# Altium integrated library Renesas Microcontroller H8S.IntLib: 670 symbols (part 32 of 70)
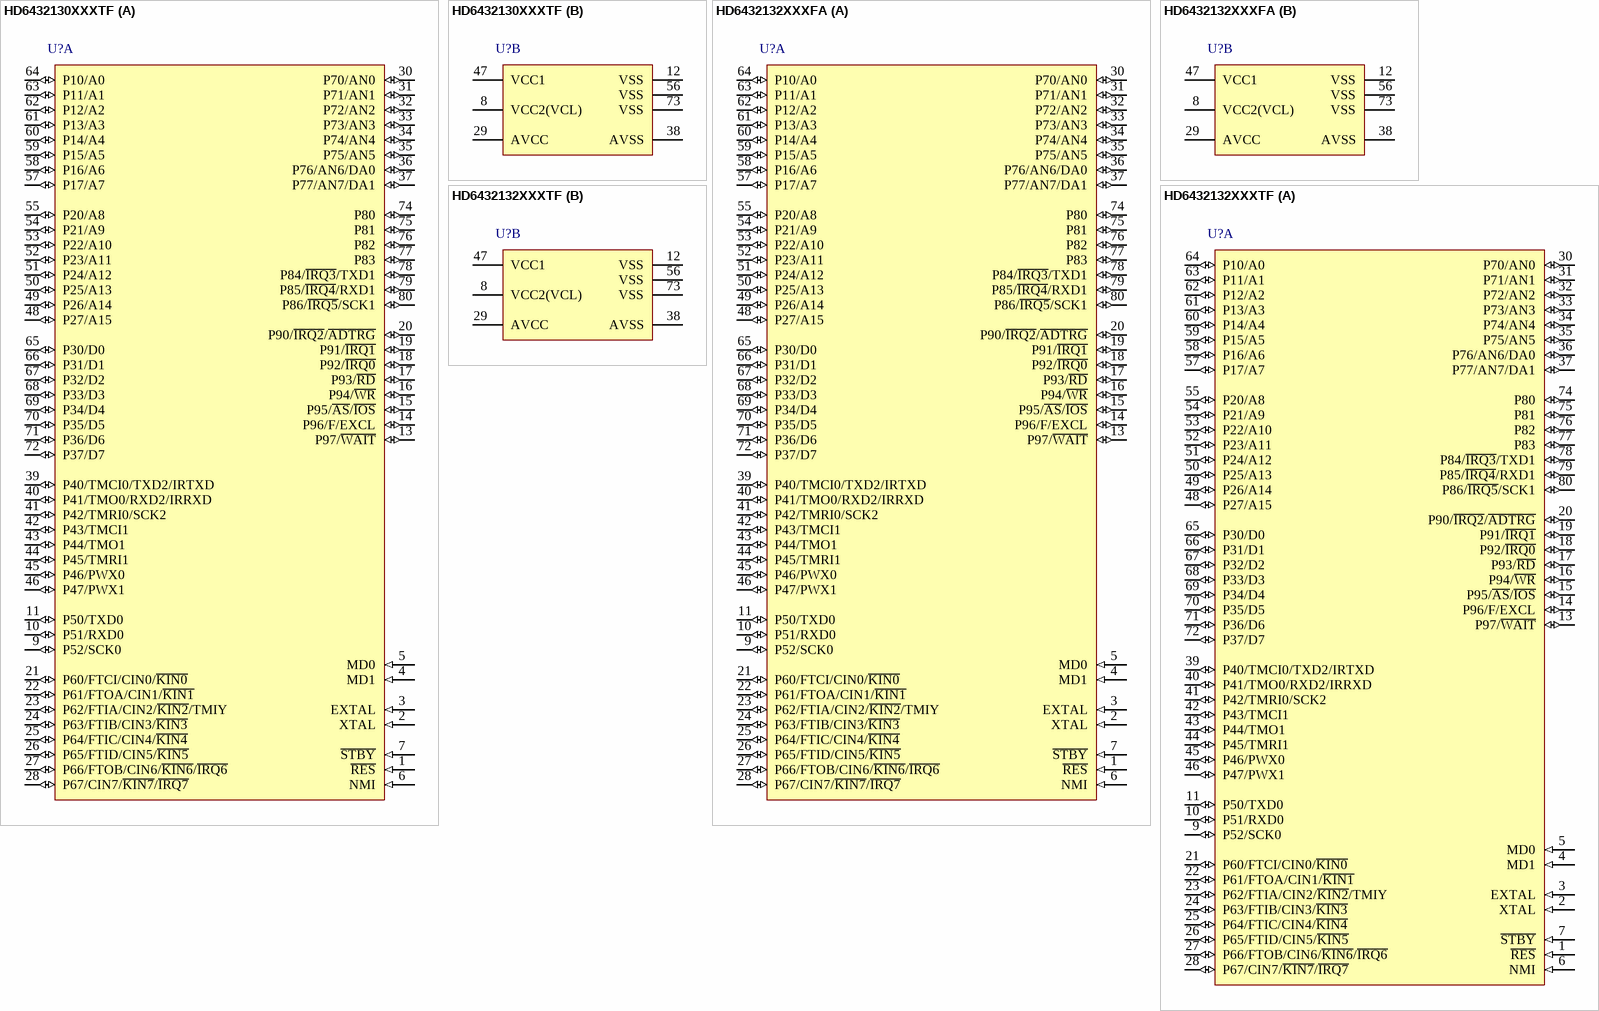
[diagram p360: symbols HD6432130XXXTF to HD6432132XXXTF]

## HD6432132XXXTF
designator U?
Mask ROM H8S/2100 Series, 2134 Group MCU, 64K ROM, 2K RAM, TFP-80C Pkg; Published: 28-Aug-2009; DatasheetVersion: Rev.4.00, Jun-2006; PackageVersion: Sep-2005; PackageReference: PTQP0080KC-A; Publisher: Altium Limited; PackageDescription: 80-Pin Plastic Thin Quad Flat Pack, 12 x 12 x 1.0 mm Body, 0.5 mm Pitch; Code_JEITA: P-TQFP80-12x12-0.50; ComponentLink1Description: Manufacturer Link; ComponentLink1URL: http://sg.renesas.com/fmwk.jsp?cnt=h8s_family_landing.jsp&fp=/products/mpumcu/h8s_family/; ComponentLink2Description: Datasheet; ComponentLink2URL: http://documentation.renesas.com/eng/products/mpumcu/rej09b0301_2138hm.pdf; ComponentLink3Description: Packaging Specification; ComponentLink3URL: http://sg.renesas.com/media/products/common_info/package/pdf/ic/code/ptqp0080kc_a.pdf
footprint PTQP0080KC-A_N (Thin QFP, 80-Leads, Body 12x12mm, Pitch 0.5mm, IPC Medium Density)
footprint PTQP0080KC-A_L (Thin QFP, 80-Leads, Body 12x12mm, Pitch 0.5mm, IPC High Density)
footprint PTQP0080KC-A_M (Thin QFP, 80-Leads, Body 12x12mm, Pitch 0.5mm, IPC Low Density)
part A pins: 1 ~{RES} (in), 2 XTAL (in), 3 EXTAL (in), 4 MD1 (in), 5 MD0 (in), 6 NMI (in), 7 ~{STBY} (in), 9 P52/SCK0 (io), 10 P51/RXD0 (io), 11 P50/TXD0 (io), 13 P97/~{WAIT} (io), 14 P96/F/EXCL (io), 15 P95/~{AS}/~{IOS} (io), 16 P94/~{WR} (io), 17 P93/~{RD} (io), 18 P92/~{IRQ0} (io), 19 P91/~{IRQ1} (io), 20 P90/~{IRQ2}/~{ADTRG} (io), 21 P60/FTCI/CIN0/~{KIN0} (io), 22 P61/FTOA/CIN1/~{KIN1} (io), 23 P62/FTIA/CIN2/~{KIN2}/TMIY (io), 24 P63/FTIB/CIN3/~{KIN3} (io), 25 P64/FTIC/CIN4/~{KIN4} (io), 26 P65/FTID/CIN5/~{KIN5} (io), 27 P66/FTOB/CIN6/~{KIN6}/~{IRQ6} (io), 28 P67/CIN7/~{KIN7}/~{IRQ7} (io), 30 P70/AN0 (io), 31 P71/AN1 (io), 32 P72/AN2 (io), 33 P73/AN3 (io), 34 P74/AN4 (io), 35 P75/AN5 (io), 36 P76/AN6/DA0 (io), 37 P77/AN7/DA1 (io), 39 P40/TMCI0/TXD2/IRTXD (io), 40 P41/TMO0/RXD2/IRRXD (io), 41 P42/TMRI0/SCK2 (io), 42 P43/TMCI1 (io), 43 P44/TMO1 (io), 44 P45/TMRI1 (io), 45 P46/PWX0 (io), 46 P47/PWX1 (io), 48 P27/A15 (io), 49 P26/A14 (io), 50 P25/A13 (io), 51 P24/A12 (io), 52 P23/A11 (io), 53 P22/A10 (io), 54 P21/A9 (io), 55 P20/A8 (io), 57 P17/A7 (io), 58 P16/A6 (io), 59 P15/A5 (io), 60 P14/A4 (io), 61 P13/A3 (io), 62 P12/A2 (io), 63 P11/A1 (io), 64 P10/A0 (io), 65 P30/D0 (io), 66 P31/D1 (io), 67 P32/D2 (io), 68 P33/D3 (io), 69 P34/D4 (io), 70 P35/D5 (io), 71 P36/D6 (io), 72 P37/D7 (io), 74 P80 (io), 75 P81 (io), 76 P82 (io), 77 P83 (io), 78 P84/~{IRQ3}/TXD1 (io), 79 P85/~{IRQ4}/RXD1 (io), 80 P86/~{IRQ5}/SCK1 (io)
part B pins: 8 VCC2(VCL), 12 VSS (power), 29 AVCC (power), 38 AVSS (power), 47 VCC1 (power), 56 VSS (power), 73 VSS (power)

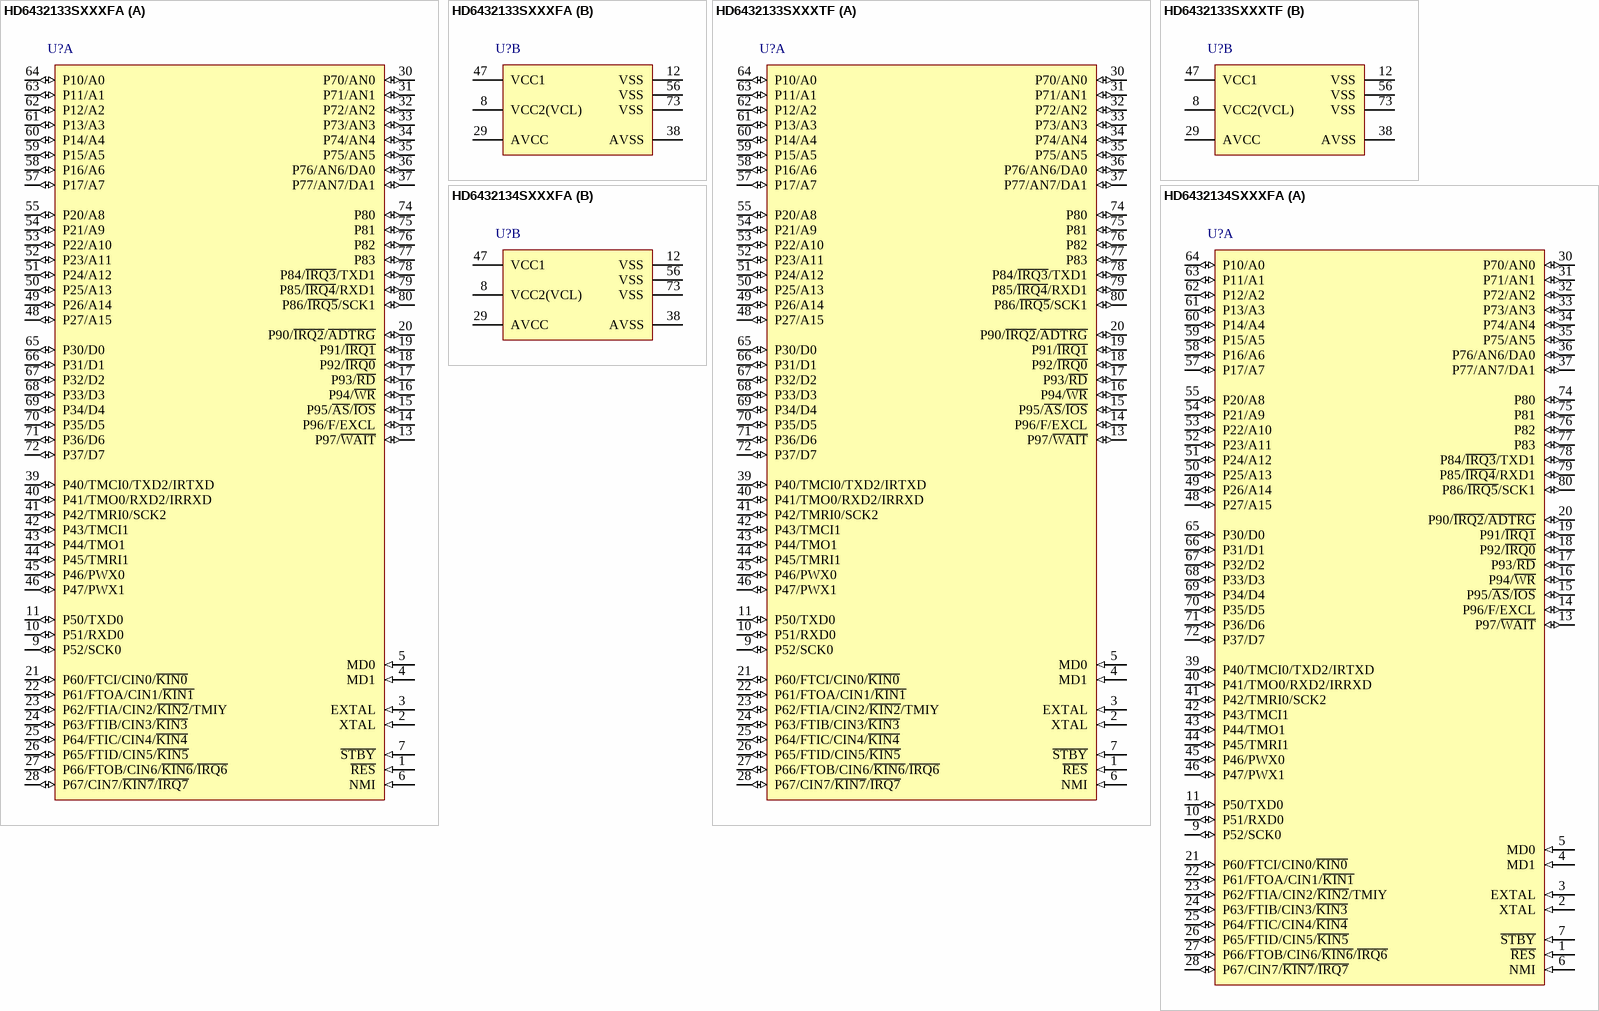
[diagram p109: symbols HD6432133SXXXFA to HD6432134SXXXFA]

## HD6432133SXXXFA
designator U?
Mask ROM H8S/2100 Series, 2134 Group MCU, 96K ROM, 4K RAM, FP-80A Pkg; Published: 28-Aug-2009; DatasheetVersion: Rev.4.00, Jun-2006; PackageVersion: Sep-2005; PackageReference: PRQP0080JB-A; Publisher: Altium Limited; PackageDescription: 80-Pin Plastic Quad Flat Pack, 14 x 14 x 2.7 mm Body, 0.65 mm Pitch; Code_JEITA: P-QFP80-14x14-0.65; Code_IPC: QFP65P1720X1720-80; ComponentLink1Description: Manufacturer Link; ComponentLink1URL: http://sg.renesas.com/fmwk.jsp?cnt=h8s_family_landing.jsp&fp=/products/mpumcu/h8s_family/; ComponentLink2Description: Datasheet; ComponentLink2URL: http://documentation.renesas.com/eng/products/mpumcu/rej09b0301_2138hm.pdf; ComponentLink3Description: Packaging Specification; ComponentLink3URL: http://sg.renesas.com/media/products/common_info/package/pdf/ic/code/prqp0080jb_a.pdf
footprint PRQP0080JB-A_N (QFP, 80-Leads, Body 14x14mm, Pitch 0.65mm, IPC Medium Density)
footprint PRQP0080JB-A_L (QFP, 80-Leads, Body 14x14mm, Pitch 0.65mm, IPC High Density)
footprint PRQP0080JB-A_M (QFP, 80-Leads, Body 14x14mm, Pitch 0.65mm, IPC Low Density)
part A pins: 1 ~{RES} (in), 2 XTAL (in), 3 EXTAL (in), 4 MD1 (in), 5 MD0 (in), 6 NMI (in), 7 ~{STBY} (in), 9 P52/SCK0 (io), 10 P51/RXD0 (io), 11 P50/TXD0 (io), 13 P97/~{WAIT} (io), 14 P96/F/EXCL (io), 15 P95/~{AS}/~{IOS} (io), 16 P94/~{WR} (io), 17 P93/~{RD} (io), 18 P92/~{IRQ0} (io), 19 P91/~{IRQ1} (io), 20 P90/~{IRQ2}/~{ADTRG} (io), 21 P60/FTCI/CIN0/~{KIN0} (io), 22 P61/FTOA/CIN1/~{KIN1} (io), 23 P62/FTIA/CIN2/~{KIN2}/TMIY (io), 24 P63/FTIB/CIN3/~{KIN3} (io), 25 P64/FTIC/CIN4/~{KIN4} (io), 26 P65/FTID/CIN5/~{KIN5} (io), 27 P66/FTOB/CIN6/~{KIN6}/~{IRQ6} (io), 28 P67/CIN7/~{KIN7}/~{IRQ7} (io), 30 P70/AN0 (io), 31 P71/AN1 (io), 32 P72/AN2 (io), 33 P73/AN3 (io), 34 P74/AN4 (io), 35 P75/AN5 (io), 36 P76/AN6/DA0 (io), 37 P77/AN7/DA1 (io), 39 P40/TMCI0/TXD2/IRTXD (io), 40 P41/TMO0/RXD2/IRRXD (io), 41 P42/TMRI0/SCK2 (io), 42 P43/TMCI1 (io), 43 P44/TMO1 (io), 44 P45/TMRI1 (io), 45 P46/PWX0 (io), 46 P47/PWX1 (io), 48 P27/A15 (io), 49 P26/A14 (io), 50 P25/A13 (io), 51 P24/A12 (io), 52 P23/A11 (io), 53 P22/A10 (io), 54 P21/A9 (io), 55 P20/A8 (io), 57 P17/A7 (io), 58 P16/A6 (io), 59 P15/A5 (io), 60 P14/A4 (io), 61 P13/A3 (io), 62 P12/A2 (io), 63 P11/A1 (io), 64 P10/A0 (io), 65 P30/D0 (io), 66 P31/D1 (io), 67 P32/D2 (io), 68 P33/D3 (io), 69 P34/D4 (io), 70 P35/D5 (io), 71 P36/D6 (io), 72 P37/D7 (io), 74 P80 (io), 75 P81 (io), 76 P82 (io), 77 P83 (io), 78 P84/~{IRQ3}/TXD1 (io), 79 P85/~{IRQ4}/RXD1 (io), 80 P86/~{IRQ5}/SCK1 (io)
part B pins: 8 VCC2(VCL), 12 VSS (power), 29 AVCC (power), 38 AVSS (power), 47 VCC1 (power), 56 VSS (power), 73 VSS (power)

## HD6432133SXXXTF
designator U?
Mask ROM H8S/2100 Series, 2134 Group MCU, 96K ROM, 4K RAM, TFP-80C Pkg; Published: 28-Aug-2009; DatasheetVersion: Rev.4.00, Jun-2006; PackageVersion: Sep-2005; PackageReference: PTQP0080KC-A; Publisher: Altium Limited; PackageDescription: 80-Pin Plastic Thin Quad Flat Pack, 12 x 12 x 1.0 mm Body, 0.5 mm Pitch; Code_JEITA: P-TQFP80-12x12-0.50; ComponentLink1Description: Manufacturer Link; ComponentLink1URL: http://sg.renesas.com/fmwk.jsp?cnt=h8s_family_landing.jsp&fp=/products/mpumcu/h8s_family/; ComponentLink2Description: Datasheet; ComponentLink2URL: http://documentation.renesas.com/eng/products/mpumcu/rej09b0301_2138hm.pdf; ComponentLink3Description: Packaging Specification; ComponentLink3URL: http://sg.renesas.com/media/products/common_info/package/pdf/ic/code/ptqp0080kc_a.pdf
footprint PTQP0080KC-A_N (Thin QFP, 80-Leads, Body 12x12mm, Pitch 0.5mm, IPC Medium Density)
footprint PTQP0080KC-A_L (Thin QFP, 80-Leads, Body 12x12mm, Pitch 0.5mm, IPC High Density)
footprint PTQP0080KC-A_M (Thin QFP, 80-Leads, Body 12x12mm, Pitch 0.5mm, IPC Low Density)
part A pins: 1 ~{RES} (in), 2 XTAL (in), 3 EXTAL (in), 4 MD1 (in), 5 MD0 (in), 6 NMI (in), 7 ~{STBY} (in), 9 P52/SCK0 (io), 10 P51/RXD0 (io), 11 P50/TXD0 (io), 13 P97/~{WAIT} (io), 14 P96/F/EXCL (io), 15 P95/~{AS}/~{IOS} (io), 16 P94/~{WR} (io), 17 P93/~{RD} (io), 18 P92/~{IRQ0} (io), 19 P91/~{IRQ1} (io), 20 P90/~{IRQ2}/~{ADTRG} (io), 21 P60/FTCI/CIN0/~{KIN0} (io), 22 P61/FTOA/CIN1/~{KIN1} (io), 23 P62/FTIA/CIN2/~{KIN2}/TMIY (io), 24 P63/FTIB/CIN3/~{KIN3} (io), 25 P64/FTIC/CIN4/~{KIN4} (io), 26 P65/FTID/CIN5/~{KIN5} (io), 27 P66/FTOB/CIN6/~{KIN6}/~{IRQ6} (io), 28 P67/CIN7/~{KIN7}/~{IRQ7} (io), 30 P70/AN0 (io), 31 P71/AN1 (io), 32 P72/AN2 (io), 33 P73/AN3 (io), 34 P74/AN4 (io), 35 P75/AN5 (io), 36 P76/AN6/DA0 (io), 37 P77/AN7/DA1 (io), 39 P40/TMCI0/TXD2/IRTXD (io), 40 P41/TMO0/RXD2/IRRXD (io), 41 P42/TMRI0/SCK2 (io), 42 P43/TMCI1 (io), 43 P44/TMO1 (io), 44 P45/TMRI1 (io), 45 P46/PWX0 (io), 46 P47/PWX1 (io), 48 P27/A15 (io), 49 P26/A14 (io), 50 P25/A13 (io), 51 P24/A12 (io), 52 P23/A11 (io), 53 P22/A10 (io), 54 P21/A9 (io), 55 P20/A8 (io), 57 P17/A7 (io), 58 P16/A6 (io), 59 P15/A5 (io), 60 P14/A4 (io), 61 P13/A3 (io), 62 P12/A2 (io), 63 P11/A1 (io), 64 P10/A0 (io), 65 P30/D0 (io), 66 P31/D1 (io), 67 P32/D2 (io), 68 P33/D3 (io), 69 P34/D4 (io), 70 P35/D5 (io), 71 P36/D6 (io), 72 P37/D7 (io), 74 P80 (io), 75 P81 (io), 76 P82 (io), 77 P83 (io), 78 P84/~{IRQ3}/TXD1 (io), 79 P85/~{IRQ4}/RXD1 (io), 80 P86/~{IRQ5}/SCK1 (io)
part B pins: 8 VCC2(VCL), 12 VSS (power), 29 AVCC (power), 38 AVSS (power), 47 VCC1 (power), 56 VSS (power), 73 VSS (power)

## HD6432134SXXXFA
designator U?
Mask ROM H8S/2100 Series, 2134 Group MCU, 128K ROM, 4K RAM, FP-80A Pkg; Published: 28-Aug-2009; DatasheetVersion: Rev.4.00, Jun-2006; PackageVersion: Sep-2005; PackageReference: PRQP0080JB-A; Publisher: Altium Limited; PackageDescription: 80-Pin Plastic Quad Flat Pack, 14 x 14 x 2.7 mm Body, 0.65 mm Pitch; Code_JEITA: P-QFP80-14x14-0.65; Code_IPC: QFP65P1720X1720-80; ComponentLink1Description: Manufacturer Link; ComponentLink1URL: http://sg.renesas.com/fmwk.jsp?cnt=h8s_family_landing.jsp&fp=/products/mpumcu/h8s_family/; ComponentLink2Description: Datasheet; ComponentLink2URL: http://documentation.renesas.com/eng/products/mpumcu/rej09b0301_2138hm.pdf; ComponentLink3Description: Packaging Specification; ComponentLink3URL: http://sg.renesas.com/media/products/common_info/package/pdf/ic/code/prqp0080jb_a.pdf
footprint PRQP0080JB-A_N (QFP, 80-Leads, Body 14x14mm, Pitch 0.65mm, IPC Medium Density)
footprint PRQP0080JB-A_L (QFP, 80-Leads, Body 14x14mm, Pitch 0.65mm, IPC High Density)
footprint PRQP0080JB-A_M (QFP, 80-Leads, Body 14x14mm, Pitch 0.65mm, IPC Low Density)
part A pins: 1 ~{RES} (in), 2 XTAL (in), 3 EXTAL (in), 4 MD1 (in), 5 MD0 (in), 6 NMI (in), 7 ~{STBY} (in), 9 P52/SCK0 (io), 10 P51/RXD0 (io), 11 P50/TXD0 (io), 13 P97/~{WAIT} (io), 14 P96/F/EXCL (io), 15 P95/~{AS}/~{IOS} (io), 16 P94/~{WR} (io), 17 P93/~{RD} (io), 18 P92/~{IRQ0} (io), 19 P91/~{IRQ1} (io), 20 P90/~{IRQ2}/~{ADTRG} (io), 21 P60/FTCI/CIN0/~{KIN0} (io), 22 P61/FTOA/CIN1/~{KIN1} (io), 23 P62/FTIA/CIN2/~{KIN2}/TMIY (io), 24 P63/FTIB/CIN3/~{KIN3} (io), 25 P64/FTIC/CIN4/~{KIN4} (io), 26 P65/FTID/CIN5/~{KIN5} (io), 27 P66/FTOB/CIN6/~{KIN6}/~{IRQ6} (io), 28 P67/CIN7/~{KIN7}/~{IRQ7} (io), 30 P70/AN0 (io), 31 P71/AN1 (io), 32 P72/AN2 (io), 33 P73/AN3 (io), 34 P74/AN4 (io), 35 P75/AN5 (io), 36 P76/AN6/DA0 (io), 37 P77/AN7/DA1 (io), 39 P40/TMCI0/TXD2/IRTXD (io), 40 P41/TMO0/RXD2/IRRXD (io), 41 P42/TMRI0/SCK2 (io), 42 P43/TMCI1 (io), 43 P44/TMO1 (io), 44 P45/TMRI1 (io), 45 P46/PWX0 (io), 46 P47/PWX1 (io), 48 P27/A15 (io), 49 P26/A14 (io), 50 P25/A13 (io), 51 P24/A12 (io), 52 P23/A11 (io), 53 P22/A10 (io), 54 P21/A9 (io), 55 P20/A8 (io), 57 P17/A7 (io), 58 P16/A6 (io), 59 P15/A5 (io), 60 P14/A4 (io), 61 P13/A3 (io), 62 P12/A2 (io), 63 P11/A1 (io), 64 P10/A0 (io), 65 P30/D0 (io), 66 P31/D1 (io), 67 P32/D2 (io), 68 P33/D3 (io), 69 P34/D4 (io), 70 P35/D5 (io), 71 P36/D6 (io), 72 P37/D7 (io), 74 P80 (io), 75 P81 (io), 76 P82 (io), 77 P83 (io), 78 P84/~{IRQ3}/TXD1 (io), 79 P85/~{IRQ4}/RXD1 (io), 80 P86/~{IRQ5}/SCK1 (io)
part B pins: 8 VCC2(VCL), 12 VSS (power), 29 AVCC (power), 38 AVSS (power), 47 VCC1 (power), 56 VSS (power), 73 VSS (power)

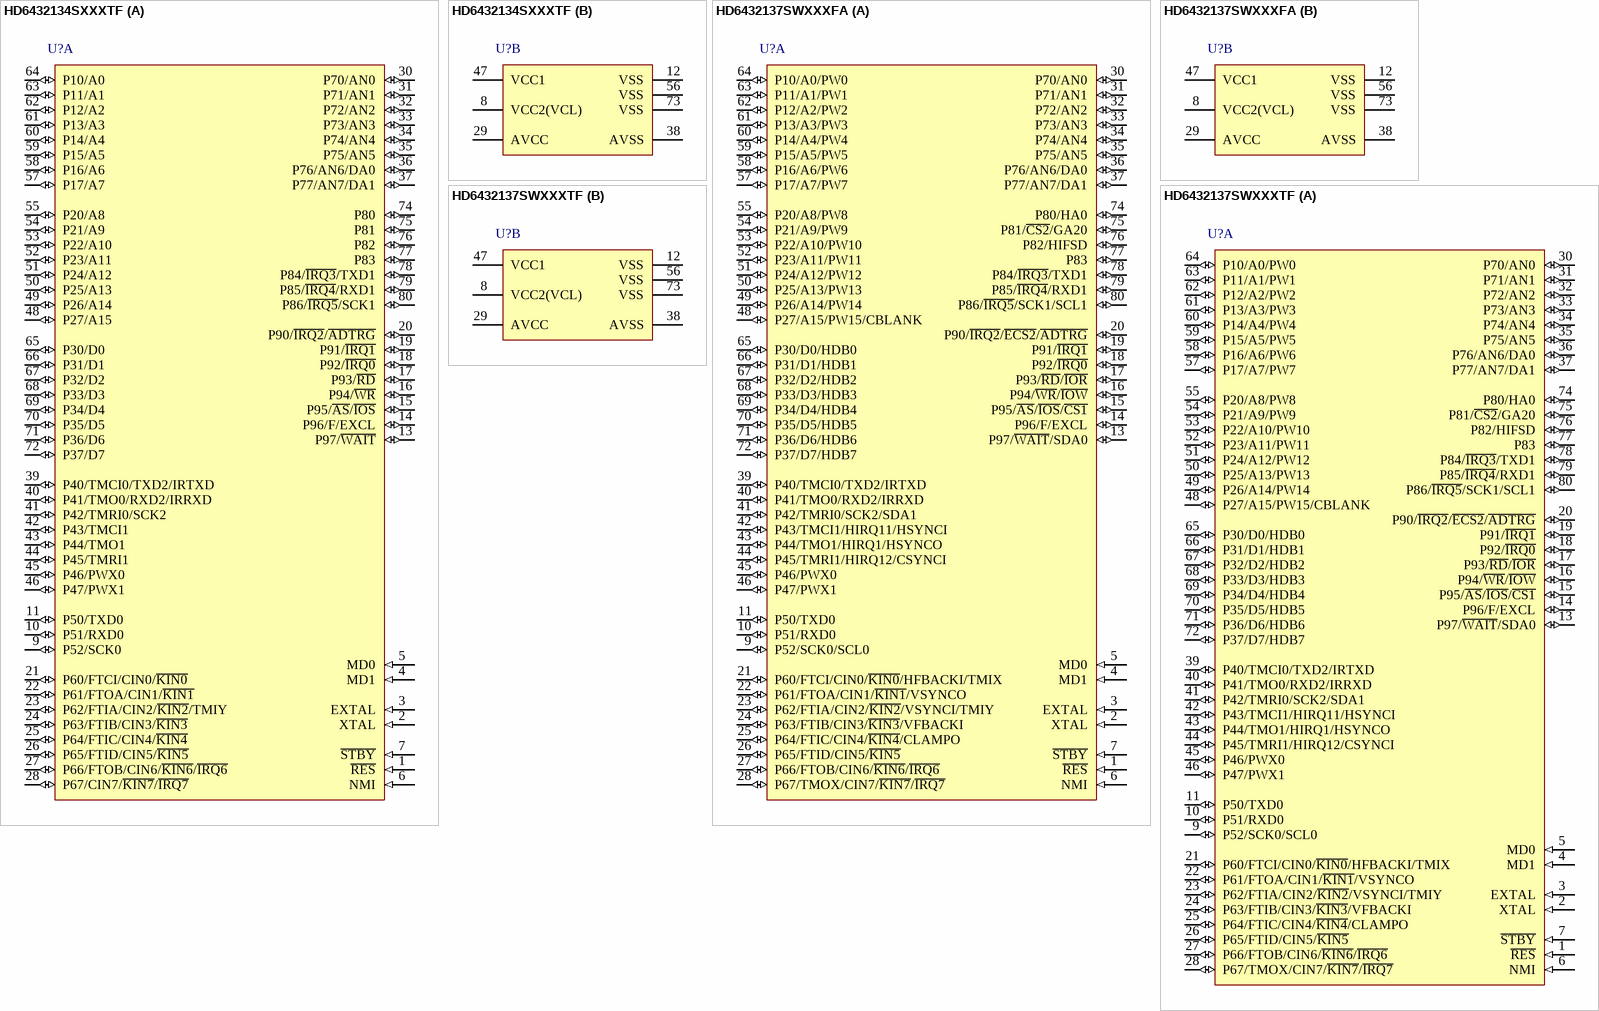
[diagram p110: symbols HD6432134SXXXTF to HD6432137SWXXXTF]

## HD6432134SXXXTF
designator U?
Mask ROM H8S/2100 Series, 2134 Group MCU, 128K ROM, 4K RAM, TFP-80C Pkg; Published: 28-Aug-2009; DatasheetVersion: Rev.4.00, Jun-2006; PackageVersion: Sep-2005; PackageReference: PTQP0080KC-A; Publisher: Altium Limited; PackageDescription: 80-Pin Plastic Thin Quad Flat Pack, 12 x 12 x 1.0 mm Body, 0.5 mm Pitch; Code_JEITA: P-TQFP80-12x12-0.50; ComponentLink1Description: Manufacturer Link; ComponentLink1URL: http://sg.renesas.com/fmwk.jsp?cnt=h8s_family_landing.jsp&fp=/products/mpumcu/h8s_family/; ComponentLink2Description: Datasheet; ComponentLink2URL: http://documentation.renesas.com/eng/products/mpumcu/rej09b0301_2138hm.pdf; ComponentLink3Description: Packaging Specification; ComponentLink3URL: http://sg.renesas.com/media/products/common_info/package/pdf/ic/code/ptqp0080kc_a.pdf
footprint PTQP0080KC-A_N (Thin QFP, 80-Leads, Body 12x12mm, Pitch 0.5mm, IPC Medium Density)
footprint PTQP0080KC-A_L (Thin QFP, 80-Leads, Body 12x12mm, Pitch 0.5mm, IPC High Density)
footprint PTQP0080KC-A_M (Thin QFP, 80-Leads, Body 12x12mm, Pitch 0.5mm, IPC Low Density)
part A pins: 1 ~{RES} (in), 2 XTAL (in), 3 EXTAL (in), 4 MD1 (in), 5 MD0 (in), 6 NMI (in), 7 ~{STBY} (in), 9 P52/SCK0 (io), 10 P51/RXD0 (io), 11 P50/TXD0 (io), 13 P97/~{WAIT} (io), 14 P96/F/EXCL (io), 15 P95/~{AS}/~{IOS} (io), 16 P94/~{WR} (io), 17 P93/~{RD} (io), 18 P92/~{IRQ0} (io), 19 P91/~{IRQ1} (io), 20 P90/~{IRQ2}/~{ADTRG} (io), 21 P60/FTCI/CIN0/~{KIN0} (io), 22 P61/FTOA/CIN1/~{KIN1} (io), 23 P62/FTIA/CIN2/~{KIN2}/TMIY (io), 24 P63/FTIB/CIN3/~{KIN3} (io), 25 P64/FTIC/CIN4/~{KIN4} (io), 26 P65/FTID/CIN5/~{KIN5} (io), 27 P66/FTOB/CIN6/~{KIN6}/~{IRQ6} (io), 28 P67/CIN7/~{KIN7}/~{IRQ7} (io), 30 P70/AN0 (io), 31 P71/AN1 (io), 32 P72/AN2 (io), 33 P73/AN3 (io), 34 P74/AN4 (io), 35 P75/AN5 (io), 36 P76/AN6/DA0 (io), 37 P77/AN7/DA1 (io), 39 P40/TMCI0/TXD2/IRTXD (io), 40 P41/TMO0/RXD2/IRRXD (io), 41 P42/TMRI0/SCK2 (io), 42 P43/TMCI1 (io), 43 P44/TMO1 (io), 44 P45/TMRI1 (io), 45 P46/PWX0 (io), 46 P47/PWX1 (io), 48 P27/A15 (io), 49 P26/A14 (io), 50 P25/A13 (io), 51 P24/A12 (io), 52 P23/A11 (io), 53 P22/A10 (io), 54 P21/A9 (io), 55 P20/A8 (io), 57 P17/A7 (io), 58 P16/A6 (io), 59 P15/A5 (io), 60 P14/A4 (io), 61 P13/A3 (io), 62 P12/A2 (io), 63 P11/A1 (io), 64 P10/A0 (io), 65 P30/D0 (io), 66 P31/D1 (io), 67 P32/D2 (io), 68 P33/D3 (io), 69 P34/D4 (io), 70 P35/D5 (io), 71 P36/D6 (io), 72 P37/D7 (io), 74 P80 (io), 75 P81 (io), 76 P82 (io), 77 P83 (io), 78 P84/~{IRQ3}/TXD1 (io), 79 P85/~{IRQ4}/RXD1 (io), 80 P86/~{IRQ5}/SCK1 (io)
part B pins: 8 VCC2(VCL), 12 VSS (power), 29 AVCC (power), 38 AVSS (power), 47 VCC1 (power), 56 VSS (power), 73 VSS (power)

## HD6432137SWXXXFA
designator U?
Mask ROM H8S/2100 Series, 2138 Group MCU, 64K ROM, 2K RAM, FP-80A Pkg; Published: 28-Aug-2009; DatasheetVersion: Rev.4.00, Jun-2006; PackageVersion: Sep-2005; PackageReference: PRQP0080JB-A; Publisher: Altium Limited; PackageDescription: 80-Pin Plastic Quad Flat Pack, 14 x 14 x 2.7 mm Body, 0.65 mm Pitch; Code_JEITA: P-QFP80-14x14-0.65; Code_IPC: QFP65P1720X1720-80; ComponentLink1Description: Manufacturer Link; ComponentLink1URL: http://sg.renesas.com/fmwk.jsp?cnt=h8s_family_landing.jsp&fp=/products/mpumcu/h8s_family/; ComponentLink2Description: Datasheet; ComponentLink2URL: http://documentation.renesas.com/eng/products/mpumcu/rej09b0301_2138hm.pdf; ComponentLink3Description: Packaging Specification; ComponentLink3URL: http://sg.renesas.com/media/products/common_info/package/pdf/ic/code/prqp0080jb_a.pdf
footprint PRQP0080JB-A_N (QFP, 80-Leads, Body 14x14mm, Pitch 0.65mm, IPC Medium Density)
footprint PRQP0080JB-A_L (QFP, 80-Leads, Body 14x14mm, Pitch 0.65mm, IPC High Density)
footprint PRQP0080JB-A_M (QFP, 80-Leads, Body 14x14mm, Pitch 0.65mm, IPC Low Density)
part A pins: 1 ~{RES} (in), 2 XTAL (in), 3 EXTAL (in), 4 MD1 (in), 5 MD0 (in), 6 NMI (in), 7 ~{STBY} (in), 9 P52/SCK0/SCL0 (io), 10 P51/RXD0 (io), 11 P50/TXD0 (io), 13 P97/~{WAIT}/SDA0 (io), 14 P96/F/EXCL (io), 15 P95/~{AS}/~{IOS}/~{CS1} (io), 16 P94/~{WR}/~{IOW} (io), 17 P93/~{RD}/~{IOR} (io), 18 P92/~{IRQ0} (io), 19 P91/~{IRQ1} (io), 20 P90/~{IRQ2}/~{ECS2}/~{ADTRG} (io), 21 P60/FTCI/CIN0/~{KIN0}/HFBACKI/TMIX (io), 22 P61/FTOA/CIN1/~{KIN1}/VSYNCO (io), 23 P62/FTIA/CIN2/~{KIN2}/VSYNCI/TMIY (io), 24 P63/FTIB/CIN3/~{KIN3}/VFBACKI (io), 25 P64/FTIC/CIN4/~{KIN4}/CLAMPO (io), 26 P65/FTID/CIN5/~{KIN5} (io), 27 P66/FTOB/CIN6/~{KIN6}/~{IRQ6} (io), 28 P67/TMOX/CIN7/~{KIN7}/~{IRQ7} (io), 30 P70/AN0 (io), 31 P71/AN1 (io), 32 P72/AN2 (io), 33 P73/AN3 (io), 34 P74/AN4 (io), 35 P75/AN5 (io), 36 P76/AN6/DA0 (io), 37 P77/AN7/DA1 (io), 39 P40/TMCI0/TXD2/IRTXD (io), 40 P41/TMO0/RXD2/IRRXD (io), 41 P42/TMRI0/SCK2/SDA1 (io), 42 P43/TMCI1/HIRQ11/HSYNCI (io), 43 P44/TMO1/HIRQ1/HSYNCO (io), 44 P45/TMRI1/HIRQ12/CSYNCI (io), 45 P46/PWX0 (io), 46 P47/PWX1 (io), 48 P27/A15/PW15/CBLANK (io), 49 P26/A14/PW14 (io), 50 P25/A13/PW13 (io), 51 P24/A12/PW12 (io), 52 P23/A11/PW11 (io), 53 P22/A10/PW10 (io), 54 P21/A9/PW9 (io), 55 P20/A8/PW8 (io), 57 P17/A7/PW7 (io), 58 P16/A6/PW6 (io), 59 P15/A5/PW5 (io), 60 P14/A4/PW4 (io), 61 P13/A3/PW3 (io), 62 P12/A2/PW2 (io), 63 P11/A1/PW1 (io), 64 P10/A0/PW0 (io), 65 P30/D0/HDB0 (io), 66 P31/D1/HDB1 (io), 67 P32/D2/HDB2 (io), 68 P33/D3/HDB3 (io), 69 P34/D4/HDB4 (io), 70 P35/D5/HDB5 (io), 71 P36/D6/HDB6 (io), 72 P37/D7/HDB7 (io), 74 P80/HA0 (io), 75 P81/~{CS2}/GA20 (io), 76 P82/HIFSD (io), 77 P83 (io), 78 P84/~{IRQ3}/TXD1 (io), 79 P85/~{IRQ4}/RXD1 (io), 80 P86/~{IRQ5}/SCK1/SCL1 (io)
part B pins: 8 VCC2(VCL), 12 VSS (power), 29 AVCC (power), 38 AVSS (power), 47 VCC1 (power), 56 VSS (power), 73 VSS (power)

## HD6432137SWXXXTF
designator U?
Mask ROM H8S/2100 Series, 2138 Group MCU, 64K ROM, 2K RAM, TFP-80C Pkg; Published: 28-Aug-2009; DatasheetVersion: Rev.4.00, Jun-2006; PackageVersion: Sep-2005; PackageReference: PTQP0080KC-A; Publisher: Altium Limited; PackageDescription: 80-Pin Plastic Thin Quad Flat Pack, 12 x 12 x 1.0 mm Body, 0.5 mm Pitch; Code_JEITA: P-TQFP80-12x12-0.50; ComponentLink1Description: Manufacturer Link; ComponentLink1URL: http://sg.renesas.com/fmwk.jsp?cnt=h8s_family_landing.jsp&fp=/products/mpumcu/h8s_family/; ComponentLink2Description: Datasheet; ComponentLink2URL: http://documentation.renesas.com/eng/products/mpumcu/rej09b0301_2138hm.pdf; ComponentLink3Description: Packaging Specification; ComponentLink3URL: http://sg.renesas.com/media/products/common_info/package/pdf/ic/code/ptqp0080kc_a.pdf
footprint PTQP0080KC-A_N (Thin QFP, 80-Leads, Body 12x12mm, Pitch 0.5mm, IPC Medium Density)
footprint PTQP0080KC-A_L (Thin QFP, 80-Leads, Body 12x12mm, Pitch 0.5mm, IPC High Density)
footprint PTQP0080KC-A_M (Thin QFP, 80-Leads, Body 12x12mm, Pitch 0.5mm, IPC Low Density)
part A pins: 1 ~{RES} (in), 2 XTAL (in), 3 EXTAL (in), 4 MD1 (in), 5 MD0 (in), 6 NMI (in), 7 ~{STBY} (in), 9 P52/SCK0/SCL0 (io), 10 P51/RXD0 (io), 11 P50/TXD0 (io), 13 P97/~{WAIT}/SDA0 (io), 14 P96/F/EXCL (io), 15 P95/~{AS}/~{IOS}/~{CS1} (io), 16 P94/~{WR}/~{IOW} (io), 17 P93/~{RD}/~{IOR} (io), 18 P92/~{IRQ0} (io), 19 P91/~{IRQ1} (io), 20 P90/~{IRQ2}/~{ECS2}/~{ADTRG} (io), 21 P60/FTCI/CIN0/~{KIN0}/HFBACKI/TMIX (io), 22 P61/FTOA/CIN1/~{KIN1}/VSYNCO (io), 23 P62/FTIA/CIN2/~{KIN2}/VSYNCI/TMIY (io), 24 P63/FTIB/CIN3/~{KIN3}/VFBACKI (io), 25 P64/FTIC/CIN4/~{KIN4}/CLAMPO (io), 26 P65/FTID/CIN5/~{KIN5} (io), 27 P66/FTOB/CIN6/~{KIN6}/~{IRQ6} (io), 28 P67/TMOX/CIN7/~{KIN7}/~{IRQ7} (io), 30 P70/AN0 (io), 31 P71/AN1 (io), 32 P72/AN2 (io), 33 P73/AN3 (io), 34 P74/AN4 (io), 35 P75/AN5 (io), 36 P76/AN6/DA0 (io), 37 P77/AN7/DA1 (io), 39 P40/TMCI0/TXD2/IRTXD (io), 40 P41/TMO0/RXD2/IRRXD (io), 41 P42/TMRI0/SCK2/SDA1 (io), 42 P43/TMCI1/HIRQ11/HSYNCI (io), 43 P44/TMO1/HIRQ1/HSYNCO (io), 44 P45/TMRI1/HIRQ12/CSYNCI (io), 45 P46/PWX0 (io), 46 P47/PWX1 (io), 48 P27/A15/PW15/CBLANK (io), 49 P26/A14/PW14 (io), 50 P25/A13/PW13 (io), 51 P24/A12/PW12 (io), 52 P23/A11/PW11 (io), 53 P22/A10/PW10 (io), 54 P21/A9/PW9 (io), 55 P20/A8/PW8 (io), 57 P17/A7/PW7 (io), 58 P16/A6/PW6 (io), 59 P15/A5/PW5 (io), 60 P14/A4/PW4 (io), 61 P13/A3/PW3 (io), 62 P12/A2/PW2 (io), 63 P11/A1/PW1 (io), 64 P10/A0/PW0 (io), 65 P30/D0/HDB0 (io), 66 P31/D1/HDB1 (io), 67 P32/D2/HDB2 (io), 68 P33/D3/HDB3 (io), 69 P34/D4/HDB4 (io), 70 P35/D5/HDB5 (io), 71 P36/D6/HDB6 (io), 72 P37/D7/HDB7 (io), 74 P80/HA0 (io), 75 P81/~{CS2}/GA20 (io), 76 P82/HIFSD (io), 77 P83 (io), 78 P84/~{IRQ3}/TXD1 (io), 79 P85/~{IRQ4}/RXD1 (io), 80 P86/~{IRQ5}/SCK1/SCL1 (io)
part B pins: 8 VCC2(VCL), 12 VSS (power), 29 AVCC (power), 38 AVSS (power), 47 VCC1 (power), 56 VSS (power), 73 VSS (power)

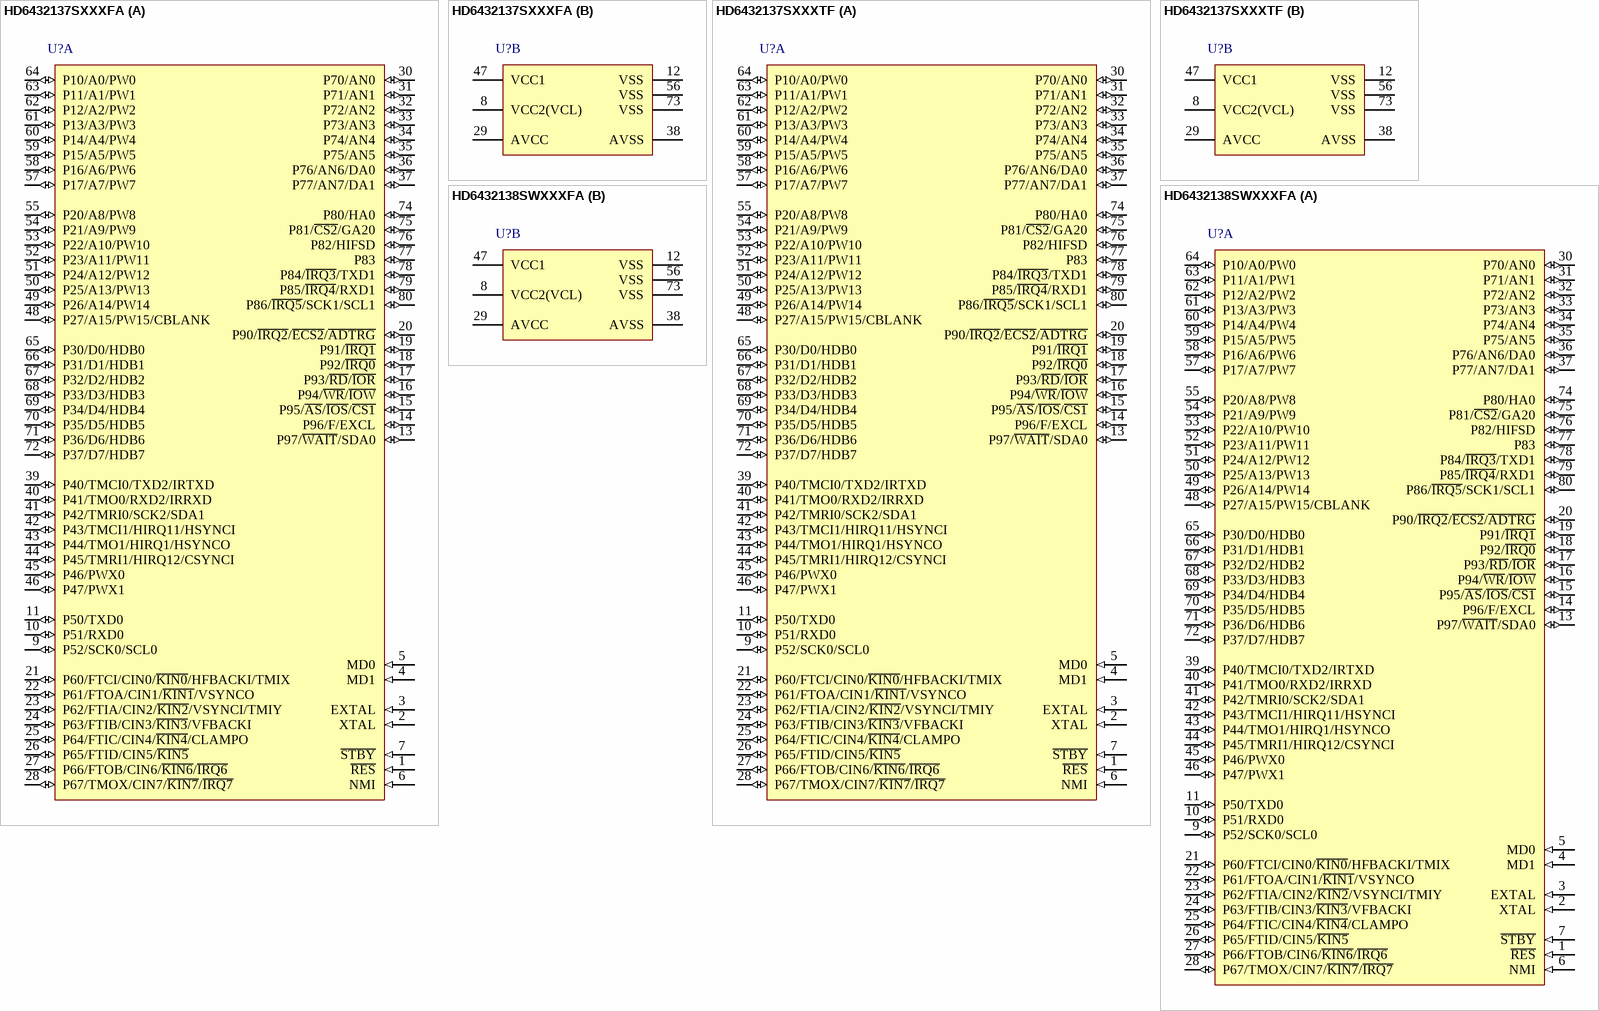
[diagram p111: symbols HD6432137SXXXFA to HD6432138SWXXXFA]